# Altium integrated library Monolithic_Power_Systems.IntLib: 10 symbols
Pins are listed as number, name and electrical type; pins without a type are passive.

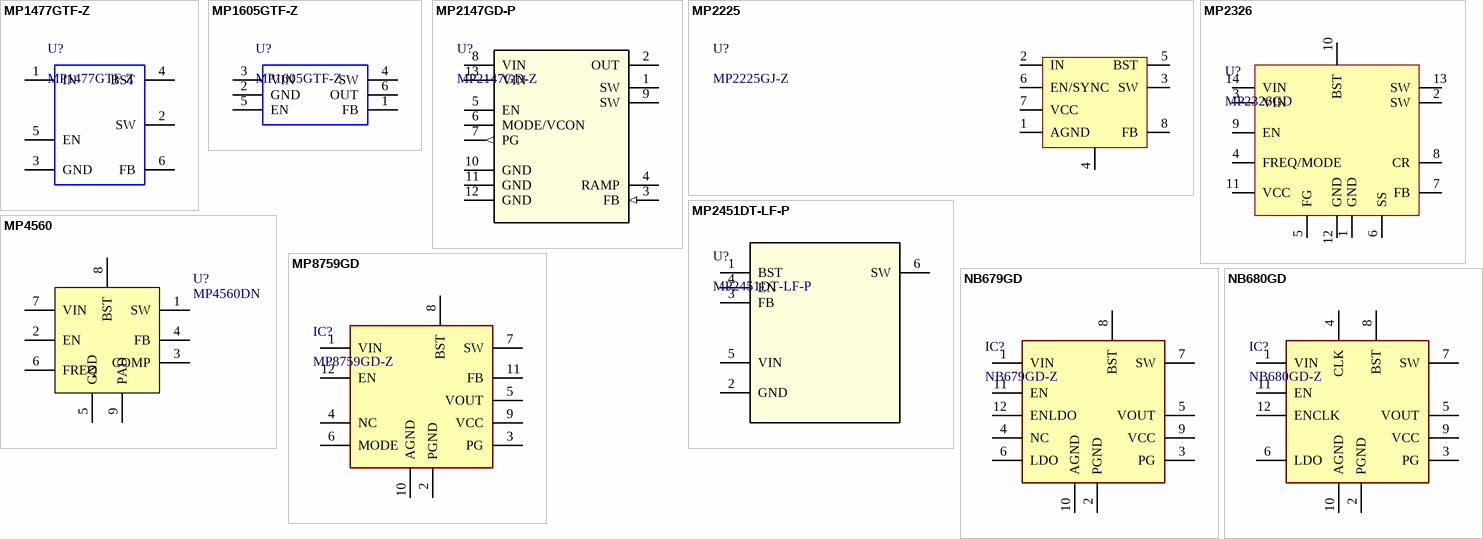
[diagram p0: symbols MP1477GTF-Z to NB680GD]

## MP1477GTF-Z
designator U?
17V, 3A, 800kHz, High-Efficiency, / Synchronous, Step-Down Converter / with COT Control in SOT563 Package; Mfr_Name: Monolithic Power Systems; Revised By: Z_xiao; Copyright: Copyright (C) 2022 Ultra Librarian. All rights reserved.; Manufacturer_Part_Number: MP1477GTF-Z; RefDes: RefDes; Type: DEV; ComponentLink1Description: Datasheet; ComponentLink1URL: https://www.monolithicpower.cn/cn/documentview/productdocument/index/version/2/document_type/Datasheet/lang/en/sku/MP1477/document_id/3730/
footprint SOT563_MP1477_MNP
footprint SOT563_MP1477_MNP-M
footprint SOT563_MP1477_MNP-L
pins: 1 IN, 2 SW, 3 GND, 4 BST, 5 EN, 6 FB

## MP1605GTF-Z
designator U?
2A, Synchronous, Step-Down Converter / with Low 11µA Quiescent Current / in SOT563 Package; Mfr_Name: Monolithic Power Systems; Revised By: Z_xiao; Copyright: Copyright (C) 2022 Ultra Librarian. All rights reserved.; Manufacturer_Part_Number: MP1605GTF-Z; RefDes: RefDes; Type: DEV; ComponentLink1Description: Datasheet; ComponentLink1URL: https://www.monolithicpower.cn/cn/documentview/productdocument/index/version/2/document_type/Datasheet/lang/en/sku/MP1605/document_id/1049/
footprint SOT563_MP1605_MNP
footprint SOT563_MP1605_MNP-L
footprint SOT563_MP1605_MNP-M
pins: 1 FB, 2 GND, 3 VIN, 4 SW, 5 EN, 6 OUT

## MP2147GD-P
designator U?, comment MP2147GD-Z
5.5V, 4A, 1.2MHz, High-Efficiency, 40μA IQ / Constant On-Time / Synchronous, Step-Down Switcher; Mfr_Name: Monolithic Power Systems; RefDes: RefDes; Type: Type
footprint QFN-12_MP2147_MNP
pins: 1 SW, 2 OUT, 3 FB (in), 4 RAMP, 5 EN, 6 MODE/VCON, 7 PG (out), 8 VIN (power), 9 SW, 10 GND (power), 11 GND (power), 12 GND (power), 13 VIN (power)

## MP2225
designator U?, comment MP2225GJ-Z
High-Efficiency, 5A, 18V, 500kHz / Synchronous, Step-Down Converter; Revised By: Z_xiao; ComponentLink1Description: Datasheet; ComponentLink1URL: https://www.monolithicpower.cn/cn/documentview/productdocument/index/version/2/document_type/Datasheet/lang/en/sku/MP2225GJ-Z/document_id/922/; Type: DEV
footprint TSOT23-8
footprint TSOT23-8-L
footprint TSOT23-8-M
pins: 1 AGND, 2 IN, 3 SW, 4 GND, 5 BST, 6 EN/SYNC, 7 VCC, 8 FB

## MP2326
designator U?, comment MP2326GD
19V, 4A, 40μA IQ, High-Efficiency / Constant-On-Time (COT) Step-Down / Converter in a 2mmx3mm QFN Package; Revised By: Z_xiao; ComponentLink1Description: Datasheet; Type: DEV
footprint QFN-14 (2mmx3mm)
pins: 1 GND, 2 SW, 3 VIN, 4 FREQ/MODE, 5 FG, 6 SS, 7 FB, 8 CR, 9 EN, 10 BST, 11 VCC, 12 GND, 13 SW, 14 VIN

## MP2451DT-LF-P
designator U?
36V, 2MHz, 0.6A / Step-Down Converter; SourceLibrary: MPS_2019-12-02; Built_By: EMA_Cory; Vendor: MPS International; Revised By: Z_xiao; Copyright: Copyright (C) 2018 Accelerated Designs. All rights reserved; Manufacturer_Part_Number: MP2451DT-LF-P; RefDes: RefDes; Type: DEV; ComponentLink1Description: Datasheet
footprint SOT23-6_MPS
footprint SOT23-6_MPS-L
footprint SOT23-6_MPS-M
pins: 1 BST, 2 GND, 3 FB, 4 EN, 5 VIN, 6 SW

## MP4560
designator U?, comment MP4560DN
2A, 2MHz, 55V / Step-Down Converter
footprint ESOP8_L (5*6*1.8mm（长宽高）)
footprint ESOP8_M (5*6*1.8mm（长宽高）)
footprint ESOP8_N (5*6*1.8mm（长宽高）)
pins: 1 SW, 2 EN, 3 COMP, 4 FB, 5 GND, 6 FREQ, 7 VIN, 8 BST, 9 PAD

## MP8759GD
designator IC?, comment MP8759GD-Z
26V, 8A, Low IQ, High-Current, / Synchronous, Step-Down Converter; Manufacturer_Name: Monolithic Power Systems (MPS); Datasheet Link: https://www.monolithicpower.com/pub/media/document/MP8759_r1.1.pdf; Height: 1mm; Manufacturer_Part_Number: MP8759GD-Z; Mouser Part Number: 946-MP8759GD-Z; Mouser Price/Stock: https://www.mouser.co.uk/ProductDetail/Monolithic-Power-Systems-MPS/MP8759GD-Z?qs=cslStgdnz9Ml0WoTYBLvUQ%3D%3D
footprint MP8759GDZ
pins: 1 VIN, 2 PGND, 3 PG, 4 NC, 5 VOUT, 6 MODE, 7 SW, 8 BST, 9 VCC, 10 AGND, 11 FB, 12 EN

## NB679GD
designator IC?, comment NB679GD-Z
28V, Low Iq, High Current, Fixed 5V-8A / Synchronous Buck Converter / with 100 mA LDO; Manufacturer_Name: Monolithic Power Systems (MPS); Manufacturer_Part_Number: NB679GD-P; Datasheet Link: https://www.monolithicpower.com/pub/media/document/NB679_r1.03.pdf; Height: 1mm; Mouser Part Number: 946-NB679GD-P; Mouser Price/Stock: https://www.mouser.co.uk/ProductDetail/Monolithic-Power-Systems-MPS/NB679GD-P?qs=iw0hurA%2FaD3X21Zr0uj%2Fig%3D%3D
footprint QFN-12_NB679_MNP
pins: 1 VIN, 2 PGND, 3 PG, 4 NC, 5 VOUT, 6 LDO, 7 SW, 8 BST, 9 VCC, 10 AGND, 11 EN, 12 ENLDO

## NB680GD
designator IC?, comment NB680GD-Z
28V, Low Iq, High Current, Fixed 3.3V-8A / Synchronous Buck Converter / with 100 mA LDO; Manufacturer_Name: Monolithic Power Systems (MPS); Datasheet Link: https://media.monolithicpower.com/document/n/b/nb680_r1.03.pdf; Height: 1mm; Manufacturer_Part_Number: NB680GD-Z; Mouser Part Number: 946-NB680GD-Z; Mouser Price/Stock: https://www.mouser.co.uk/ProductDetail/Monolithic-Power-Systems-MPS/NB680GD-Z?qs=iw0hurA%2FaD2WzIl%2FCd7M5Q%3D%3D
footprint QFN-12_NB680_MNP
pins: 1 VIN, 2 PGND, 3 PG, 4 CLK, 5 VOUT, 6 LDO, 7 SW, 8 BST, 9 VCC, 10 AGND, 11 EN, 12 ENCLK